# Altium integrated library AltiumLib1.IntLib: 60 symbols
Pins are listed as number, name and electrical type; pins without a type are passive.

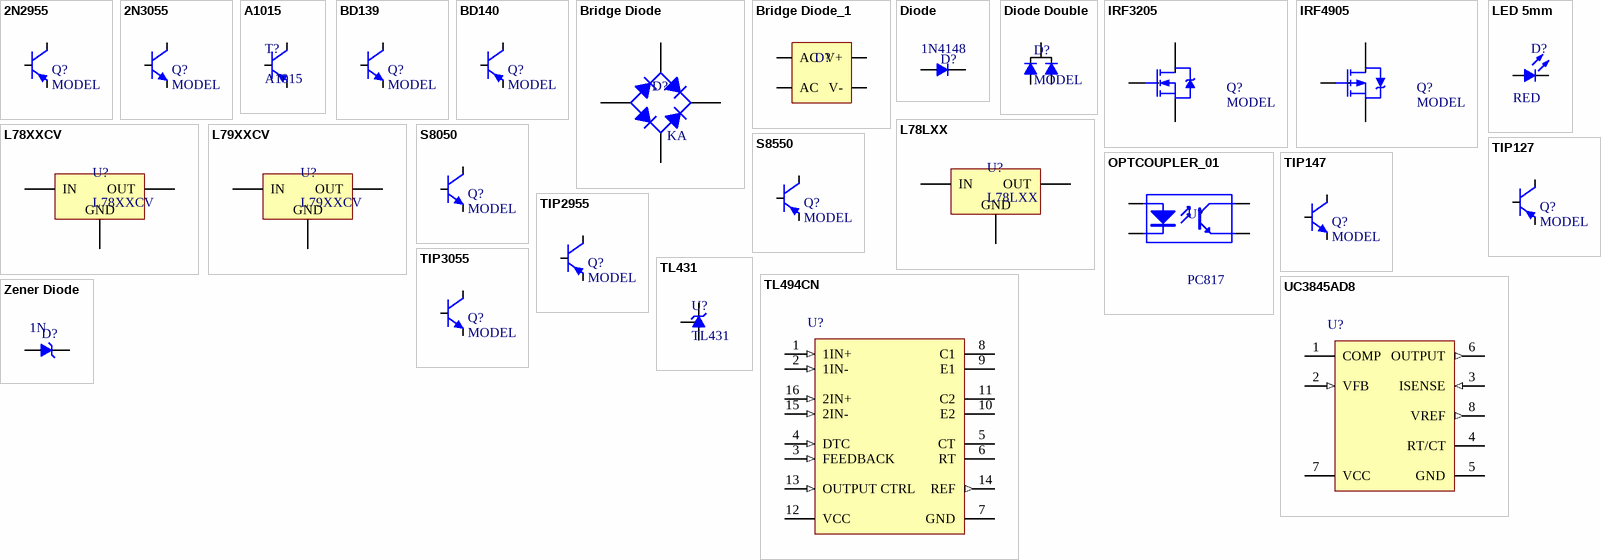
[diagram p0: symbols 2N2955 to Zener Diode]

## 2N2955
designator Q?, comment MODEL
PNP Bipolar Transistor
footprint TO-3
pins: 1 B, 2 E, 3 C

## 2N3055
designator Q?, comment MODEL
NPN Bipolar Transistor
footprint TO-3
pins: 1 B, 2 E, 3 C

## A1015
designator T?
PNP 150mA TRANSISTOR
footprint TO-92
pins: 1 E, 2 C, 3 B

## BD139
designator Q?, comment MODEL
NPN Bipolar Transistor
footprint SOT32 (SIP with Mounting Hole; 3 Leads; Body 10.7 x 7.6 x 2.6 mm (typ); Pitch 2.2 mm)
pins: 1 E, 2 C, 3 B

## BD140
designator Q?, comment MODEL
PNP Bipolar Transistor
footprint SOT32 (SIP with Mounting Hole; 3 Leads; Body 10.7 x 7.6 x 2.6 mm (typ); Pitch 2.2 mm)
pins: 1 E, 2 C, 3 B

## Bridge Diode
designator D?  MODEL: KA  (hidden comment: Bridge Diode)
Full Wave Bridge Diode
footprint Bridge_01
footprint E-BIP-P4/D10 (Bridge Rectifier; 4 Terminals; Body 9.4 x 9.4 mm (typ); Pitch 5.08 mm)
footprint E-BIP-P4/X1.8 (Bridge Rectifier; 4 Terminals; Body 16.8 x 16.8 mm (typ); Pitch 10.67 mm)
footprint E-BIP-P4/X2 (Bridge Rectifier; 4 Terminals; Body 15.2 x 15.2 mm (typ); Pitch 10.4 mm)
footprint E-BIP-P4/X2.1 (Bridge Rectifier; 4 Terminals; Body 16.8 x 16.8 mm (typ); Pitch 10.67 mm)
footprint KBU600
footprint GBJ
footprint GBJ_RIGHT
pins: 1 K, 2 C, 3 A, 4 C

## Bridge Diode_1
designator D?  (value not drawn)
Full Wave Bridge Diode
footprint Bridge_01
footprint E-BIP-P4/D10 (Bridge Rectifier; 4 Terminals; Body 9.4 x 9.4 mm (typ); Pitch 5.08 mm)
footprint E-BIP-P4/X1.8 (Bridge Rectifier; 4 Terminals; Body 16.8 x 16.8 mm (typ); Pitch 10.67 mm)
footprint E-BIP-P4/X2 (Bridge Rectifier; 4 Terminals; Body 15.2 x 15.2 mm (typ); Pitch 10.4 mm)
footprint E-BIP-P4/X2.1 (Bridge Rectifier; 4 Terminals; Body 16.8 x 16.8 mm (typ); Pitch 10.67 mm)
footprint KBU600
footprint GBJ
footprint GBJ_RIGHT
pins: 1 V+, 2 AC, 3 V-, 4 AC

## Diode
designator D?, comment MODEL: 1N4148  (hidden comment: MODEL)
Diode
footprint DO-35
footprint DO-35-STAND
footprint DO-41
footprint DO-41-STAND
footprint DO-201
pins: 1 A, 2 K

## Diode Double
designator D?, comment MODEL
Double Diode
footprint TO-220
footprint TO-220-Right (Right Angle)
footprint TO-247
footprint TO-247-RIGHT
pins: 1 A1, 2 K, 3 A2

## IRF3205
designator Q?, comment MODEL
N-CHANNEL MOSFET
footprint TO-247
footprint TO-247-RIGHT
footprint TO-220-Right (Right Angle)
footprint TO-220
pins: 1 G, 2 D, 3 S

## IRF4905
designator Q?, comment MODEL
P-CHANNEL MOSFET
footprint TO-247
footprint TO-247-RIGHT
footprint TO-220-Right (Right Angle)
footprint TO-220
pins: 1 G, 2 D, 3 S

## L78LXX
designator U?
Fixed Voltage Low Power Regulator
footprint TO-92
pins: 2 OUT, 2 GND, 3 IN

## L78XXCV
designator U?
Fixed Voltage Regulator
footprint TO-220
footprint TO-220-Right (Right Angle)
pins: 1 IN, 2 GND, 3 OUT

## L79XXCV
designator U?
Fixed Voltage Regulator
footprint TO-220
footprint TO-220-Right (Right Angle)
pins: 1 GND, 2 IN, 3 OUT

## LED 5mm
designator D?, comment COLOR: RED  (hidden comment: MODEL)
Typical LED
footprint LED-5mm (LED; 2 Leads)
pins: 1 A, 2 K

## OPTCOUPLER_01
designator U?, comment PC817
4-Pin Phototransistor Optocoupler
footprint DIP4
pins: 1 A "Anode", 2 K "Cathode", 3 E "Emitter", 4 C "Collector"

## S8050
designator Q?, comment MODEL
NPN Bipolar Transistor
footprint TO-92
pins: 1 E, 2 B, 3 C

## S8550
designator Q?, comment MODEL
PNP Bipolar Transistor
footprint TO-92
pins: 1 E, 2 B, 3 C

## TIP127
designator Q?, comment MODEL
PNP Bipolar Transistor
footprint TO-220
footprint TO-220-Right (Right Angle)
pins: 1 B, 2 C, 3 E

## TIP147
designator Q?, comment MODEL
NPN Bipolar Transistor
footprint TO-220
footprint TO-220-Right (Right Angle)
pins: 1 B, 2 C, 3 E

## TIP2955
designator Q?, comment MODEL
PNP Bipolar Transistor
footprint TO-247-RIGHT
footprint TO-247
pins: 1 B, 2 C, 3 E

## TIP3055
designator Q?, comment MODEL
NPN Bipolar Transistor
footprint TO-247
footprint TO-247-RIGHT
pins: 1 B, 2 C, 3 E

## TL431
designator U?
Reference Regulator
footprint TO-92
pins: 1 Reference, 2 ANODE, 3 KATHODE

## TL494CN
designator U?
Pulse-Width-Modulation Control Circuit with Voltage Control, 45 % Duty Cycle, 0 to +70 degC, 16-pin PDIP (N), Pb-Free (RoHS); PartNumber: TL494CN; Manufacturer: Texas Instruments; Duty Cycle(Max)(%): 45; Frequency(Max)(kHz): 300; Rating: Military; Regulated Outputs(#): 2; SubFamily: PWM Controller; Topology: Boost, Buck, Flyback, Forward, Full-Bridge, Half-Bridge, Push-Pull; DatasheetVersion: SLVS074E; PackageVersion: revE, Dec-2002; PackageReference: N16; PackageDescription: 16-Pin Plastic Dual-In-Line Package, Row Spacing 7.62 mm, Pitch 2.54 mm; Supplier 1: Digi-Key; Supplier Part Number 1: 296-1799-5-ND; Supplier 2: Farnell; Supplier Part Number 2: 1106036; Supplier 3: Newark; Supplier Part Number 3: 60K6995; Supplier 4: Mouser; Supplier Part Number 4: 595-TL494CN; Control Method: Voltage; Eco-Plan: Pb-Free (RoHS); Mounting Technology: Through Hole; Code_JEDEC: MS-001*; ComponentLink1Description: Datasheet; ComponentLink1URL: http://www.ti.com/general/docs/lit/getliterature.tsp?genericPartNumber=TL494&fileType=pdf
footprint DIP16
pins: 1 1IN+ (in), 2 1IN- (in), 3 FEEDBACK (in), 4 DTC (in), 5 CT, 6 RT, 7 GND (power), 8 C1, 9 E1, 10 E2, 11 C2, 12 VCC (power), 13 OUTPUT CTRL (in), 14 REF (out), 15 2IN- (in), 16 2IN+ (in)

## UC3845AD8
designator U?
PWM Controller with Current Control, 50 % Duty Cycle, 0 to +70 degC, 8-pin SOIC (D), Green (RoHS & no Sb/Br); PartNumber: UC3845AD8; Manufacturer: Texas Instruments; Duty Cycle(Max)(%): 50; Frequency(Max)(kHz): 450; Rating: Military; Regulated Outputs(#): 1; Topology: Boost, Buck, Flyback, Forward; UVLO Thresholds On/Off(V): 8.4/7.6; DatasheetVersion: SLUS224C; PackageVersion: revM, Jun-2011; PackageReference: D8; PackageDescription: 8-Pin Plastic Small Outline Integrated Circuit, 4.9 x 3.9 mm, Pitch 1.27 mm Pitch; Supplier 1: Digi-Key; Supplier Part Number 1: 296-11296-5-ND; Supplier 2: Farnell; Supplier Part Number 2: 1101422; Supplier 3: Newark; Supplier Part Number 3: 74K4016; Supplier 4: Mouser; Supplier Part Number 4: 595-UC3845AD8; Control Method: Current; Eco-Plan: Green (RoHS & no Sb/Br); SubFamily: PWM Controller; Mounting Technology: Surface Mount; Code_JEDEC: MS-012AA; ComponentLink1Description: Datasheet; ComponentLink1URL: http://www.ti.com/general/docs/lit/getliterature.tsp?genericPartNumber=UC3845A&fileType=pdf
footprint DIP8
pins: 1 COMP, 2 VFB (in), 3 ISENSE (in), 4 RT/CT, 5 GND (power), 6 OUTPUT (out), 7 VCC (power), 8 VREF (out)

## Zener Diode
designator D?  MODEL: 1N  (hidden comment: Zener Diode)
footprint DO-35
footprint DO-35-STAND
footprint DO-41
footprint DO-41-STAND
footprint DO-201
pins: 1 A, 2 K


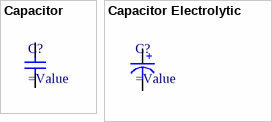
[diagram p1: symbols Capacitor to Capacitor Electrolytic]

## Capacitor
designator C?
Capacitor
footprint CAP 0603
footprint CAP 0805
footprint CAP 1206
footprint CAP-20
footprint CAP-30
footprint MKT-CAP-20
footprint MKT-CAP-30
footprint MKT-CAP-90
footprint MKT-CAP-60
pins: 1 +, 2 -

## Capacitor Electrolytic
designator C?
Electrolytic Capacitor
footprint ELEC-CAP-RAD15-30
footprint ELEC-CAP-RAD20-40
footprint ELEC-CAP-RAD20-50
footprint ELEC-CAP-RAD30-70
footprint ELEC-CAP-RAD40-85
footprint ELEC-CAP-RAD45-85 (PAYE MIKHI)
footprint ELEC-CAP-RAD50-120 (PAYE MIKHI)
footprint ELEC-CAP-RAD10-20
footprint TANTAL-CAP-Size A (Chip Capacitor, 2-Leads, Body 3.2x1.6mm, IPC High Density, chip Tantalum)
footprint TANTAL-CAP-Size D (Chip Capacitor, 2-Leads, Body 3.2x1.6mm, IPC High Density, chip Tantalum)
footprint TANTAL-CAP-Size B (Chip Capacitor, 2-Leads, Body 3.2x1.6mm, IPC High Density, chip Tantalum)
footprint TANTAL-CAP-Size C (Chip Capacitor, 2-Leads, Body 3.2x1.6mm, IPC High Density, chip Tantalum)
pins: 1 -, 2 +


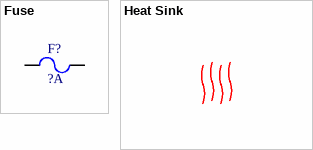
[diagram p2: symbols Fuse to Heat Sink]

## Fuse
designator F?, comment ?A
Fuse
footprint Fuse - Complex
footprint FUSE-Double PAD
pins: 1, 2

## Heat Sink
designator H?  (value not drawn)
footprint Heat Sink-01
footprint Heat Sink-02
footprint Heat Sink-03
footprint Heat Sink-04


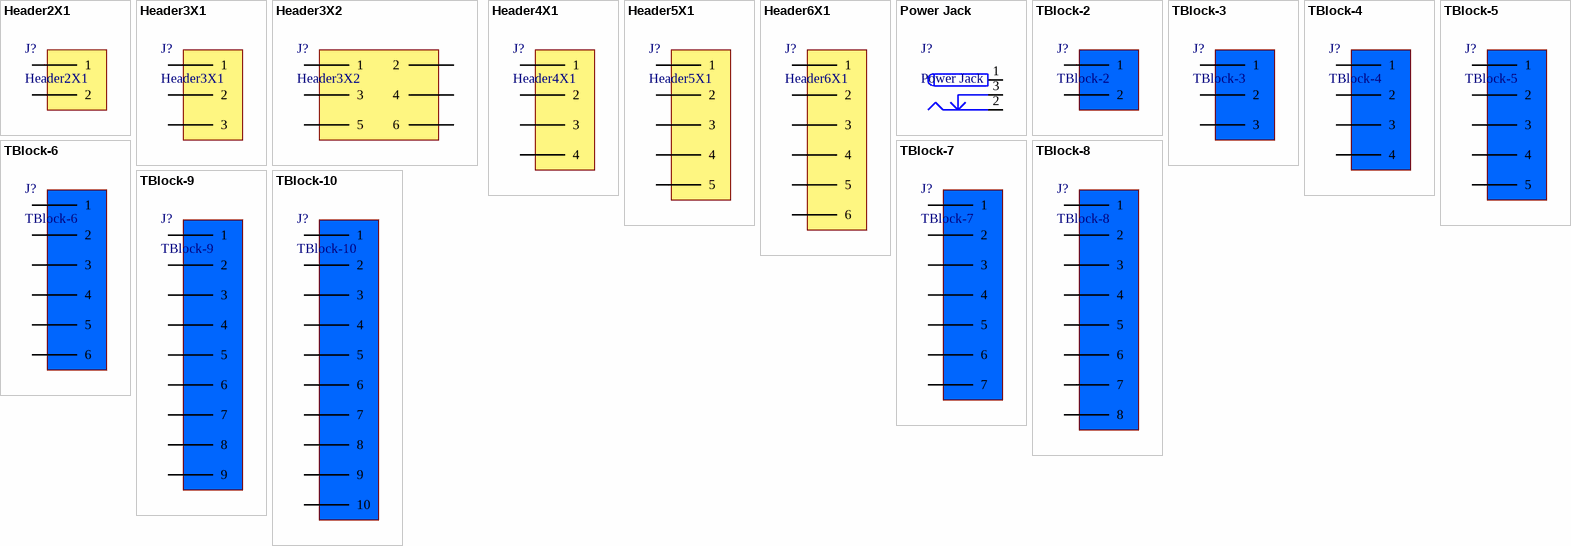
[diagram p3: symbols Header2X1 to TBlock-10]

## Header2X1
designator J?
footprint Header 2X1
pins: 1, 2

## Header3X1
designator J?
footprint HEADER 3X1
pins: 1, 2, 3

## Header3X2
designator J?
footprint HEADER 3X2
pins: 1, 2, 3, 4, 5, 6

## Header4X1
designator J?
footprint HEADER 4X1
pins: 1, 2, 3, 4

## Header5X1
designator J?
footprint HEADER 5X1
pins: 1, 2, 3, 4, 5

## Header6X1
designator J?
footprint HEADER 6X1
pins: 1, 2, 3, 4, 5, 6

## Power Jack
designator J?
footprint Power Jack
pins: 1 (power), 2 (power), 3 (power)

## TBlock-2
designator J?
footprint KF300-2 PIN
footprint TE NC6-P108-02
footprint 9.5mm pitch_T-Block
pins: 1, 2

## TBlock-3
designator J?
footprint KF300-3 PIN
footprint TE NC6-P108-03
footprint 9.5mm pitch_T-Block_3PIN
pins: 1, 2, 3

## TBlock-4
designator J?
footprint KF300-4 PIN
footprint TE NC6-P108-04
pins: 1, 2, 3, 4

## TBlock-5
designator J?
footprint KF300-5 PIN
pins: 1, 2, 3, 4, 5

## TBlock-6
designator J?
footprint KF300-6 PIN
pins: 1, 2, 3, 4, 5, 6

## TBlock-7
designator J?
footprint KF300-7 PIN
pins: 1, 2, 3, 4, 5, 6, 7

## TBlock-8
designator J?
footprint KF300-8 PIN
pins: 1, 2, 3, 4, 5, 6, 7, 8

## TBlock-9
designator J?
footprint KF300-9 PIN
pins: 1, 2, 3, 4, 5, 6, 7, 8, 9

## TBlock-10
designator J?
footprint KF300-10 PIN
pins: 1, 2, 3, 4, 5, 6, 7, 8, 9, 10


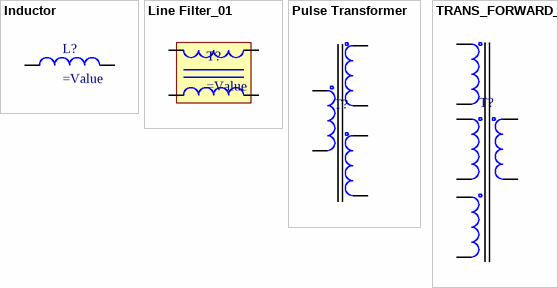
[diagram p4: symbols Inductor to TRANS_FORWARD_01]

## Inductor
designator L?
Inductor
footprint Inductor_01
pins: 1, 2

## Line Filter_01
designator T?
Line Filter
footprint Line Filter_01
pins: 1, 2, 3, 4

## Pulse Transformer
designator T?  (value not drawn)
footprint Toroid Pulse Transformer-01
pins: 1, 2, 3, 4, 5, 5

## TRANS_FORWARD_01
designator T?  (value not drawn)
footprint EER3535_01
pins: 1, 2, 5, 6, 7, 8, 9,10,11,12, 13,14,15,16


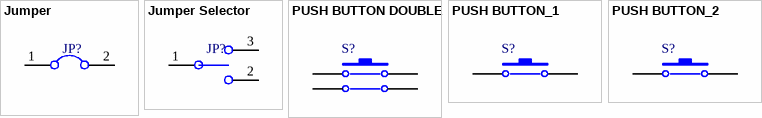
[diagram p5: symbols Jumper to PUSH BUTTON_2]

## Jumper
designator JP?
Jumper
footprint Header 2X1
footprint Jumper
footprint Jumper Small - 2.54 - BLUE
pins: 1, 2

## Jumper Selector
designator JP?
Jumper Selector
footprint Jumper Selector
pins: 1, 2, 3

## PUSH BUTTON DOUBLE
designator S?  (value not drawn)
Switch
footprint PUSH BUTTON
pins: 1, 2, 3, 4

## PUSH BUTTON_1
designator S?, comment PUSH BUTTON  (value not drawn)
Switch
footprint PUSH BUTTON
pins: 1,3 1, 2,4 2

## PUSH BUTTON_2
designator S?  (value not drawn)
Switch
footprint PUSH BUTTON
pins: 1,2 1, 3,4 2


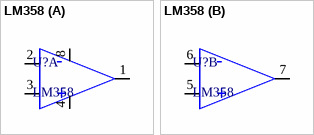
[diagram p6: symbol LM358]

## LM358
designator U?
Dual Low Noise Operational Amplifier (OpAmp)
footprint DIP8
part A pins: 1 Output A, 2 Inverter Input, 3 Noninverter Input, 4 V-, 8 V+
part B pins: 5 Noninverter Input, 6 Inverter Input, 7 Output B
part A text: -; +
part B text: -; +


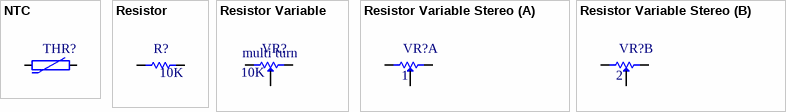
[diagram p7: symbols NTC to Resistor Variable Stereo]

## NTC
designator THR?
NTC
footprint NTC_10mm
footprint NTC_15mm
footprint NTC_20mm
pins: 1, 2

## Resistor
designator R?, comment 10K
Resistor; Tolerance: 5%; Power: 1/4 W; Value: 10K
simulation model Model Name (Model Description)
footprint Res-(1/8)
footprint Res-(1/4)
footprint Res-(1/2)
footprint Res-(1/1)
footprint Res-(2/1)
footprint RES 0201 (0603X03L) (Chip Resistor, 2-Leads, Body 0.6x0.3mm, IPC High Density (0.05 W))
footprint RES 0402 (1005X04L) (Chip Resistor, 2-Leads, Body 1.0x0.5mm, IPC High Density _ (0.031/0.063 W))
footprint RES 0603 (1608X06L) (Chip Resistor, 2-Leads, Body 1.6x0.8mm, IPC High Density _ (0.063W))
footprint RES 0805 (2012X06L) (Chip Resistor, 2-Leads, Body 2.0x1.3mm, IPC High Density _ (0.100 W))
footprint RES 1206 (3216X08L) (Chip Resistor, 2-Leads, Body 3.2x1.6mm, IPC High Density _ (0.125 W))
footprint RES 1210 (3226X07L) (Chip Resistor, 2-Leads, Body 3.2x2.6mm, IPC High Density _ (0.250 W))
footprint RES 1217 (3042X09L) (Chip Resistor, 2-Leads, Body 3.0x4.2mm, IPC High Density _ (0.250 W))
footprint RES 2010 (5026X08L) (Chip Resistor, 2-Leads, Body 5.0x2.6mm, IPC High Density _ (0.250 W))
footprint RES 2020 (5151X09L) (Chip Resistor, 2-Leads, Body 5.1x5.1mm, IPC High Density _ (0.5 W))
footprint RES 2045 (50115X09L) (Chip Resistor, 2-Leads, Body 5.0x11.5mm, IPC High Density _ (1.0 W))
footprint RES 2512 (6331X07L) (Chip Resistor, 2-Leads, Body 6.3x3.1mm, IPC High Density _ (0.500 W))
footprint Res-(1/4)-Stand
footprint Res-(5/1)-Stand
footprint Res-(2/1)-Stand
footprint Res-(5/1)
pins: 1, 2

## Resistor Variable
designator VR?, comment Type: multi turn  (hidden comment: 10K)
Variable Resistor; Value: 10K
footprint Pot (Footprint not found)
footprint Multi Turn (Footprint not found)
footprint Volume
footprint Volume-Right
pins: 1 CCW, 2 Setpoint, 3 CW

## Resistor Variable Stereo
designator VR?
Variable Resistor
footprint Volume Stereo
part A pins: 1 CCW, 2 Setpoint, 3 CW
part B pins: 4 CCW, 5 Setpoint, 6 CW